# EAGLE library part NRF8001FOOTPRINT (library tinycircuits)
Footprint for the nRF8001 Bluetooth Low Energy Module
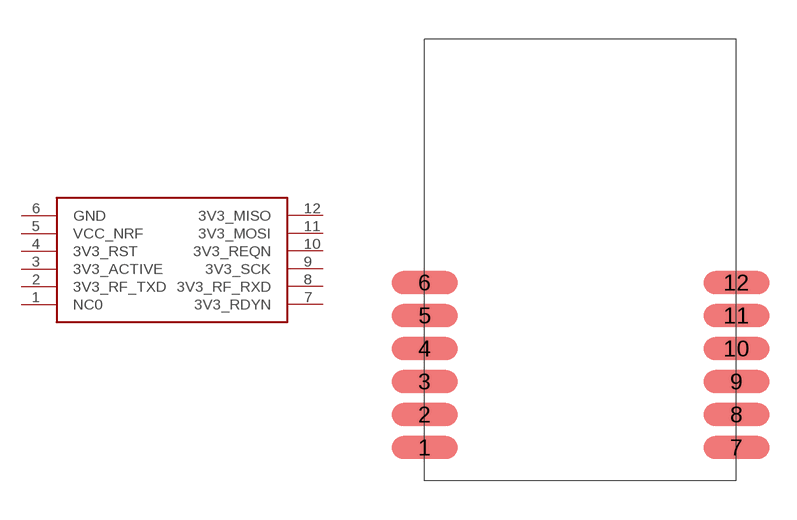
[diagram p60: symbol with the pads of NRF8001FOOTPRINT; footprint NRF8001FOOTPRINT]

Designator prefix -

## NRF8001FOOTPRINT  [NRF8001FOOTPRINT]
1  NC0
2  3V3_RF_TXD
3  3V3_ACTIVE
4  3V3_RST
5  VCC_NRF
6  GND
7  3V3_RDYN
8  3V3_RF_RXD
9  3V3_SCK
10  3V3_REQN
11  3V3_MOSI
12  3V3_MISO

## Footprint NRF8001FOOTPRINT (pad centres in mm)
smd 2.54 x 0.889: 1 -5.969,-6.985; 2 -5.969,-5.715; 3 -5.969,-4.445; 4 -5.969,-3.175; 5 -5.969,-1.905; 6 -5.969,-0.635; 7 6.031,-6.985; 8 6.031,-5.715; 9 6.031,-4.445; 10 6.031,-3.175; 11 6.031,-1.905; 12 6.031,-0.635